# EAGLE library part LM2672M-3.3_NOPB (library stopwatch)
SIMPLE SWITCHER® 6.5V to 40V, 1A Low Component Count Step-Down Regulator Source: Datasheet <http://uk.rs-online.com/web/p/products/9203630>
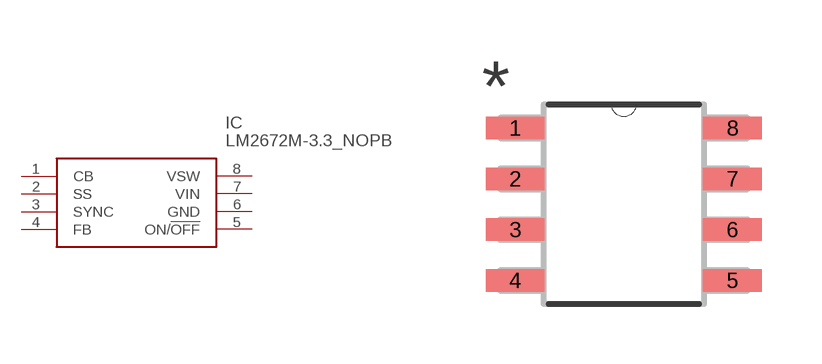
[diagram p2: symbol with the pads of SOIC127P600X175-8N; footprint SOIC127P600X175-8N]

Designator prefix IC

## LM2672M-3.3_NOPB (DESCRIPTION: SIMPLE SWITCHER&#174; 6.5V to 40V, 1A Low Component Count Step-Down Regulator; HEIGHT: 1.75mm; MANUFACTURER_NAME: Texas Instruments; MANUFACTURER_PART_NUMBER: LM2672M-3.3/NOPB; RS_PART_NUMBER: 9203630)  [SOIC127P600X175-8N]
1  CB
2  SS
3  SYNC
4  FB
5  ON/!OFF
6  GND  pwr
7  VIN  in
8  VSW

## Footprint SOIC127P600X175-8N (pad centres in mm)
smd 1.473 x 0.559: 1 -2.718,1.905; 2 -2.718,0.635; 3 -2.718,-0.635; 4 -2.718,-1.905; 5 2.718,-1.905; 6 2.718,-0.635; 7 2.718,0.635; 8 2.718,1.905